# Altium footprint library SnapEDApcb.PcbLib: 1 footprints
Each footprint in its own frame and in the unit in brackets; x right, y up, seen from the top. Pads: shape width x height; smd on the part's side, far side on the other; paste and mask are expansions set on the pad; w line width, h text height; cw(c..) or ccw(c..) is an arc to the next point about the centre after c.
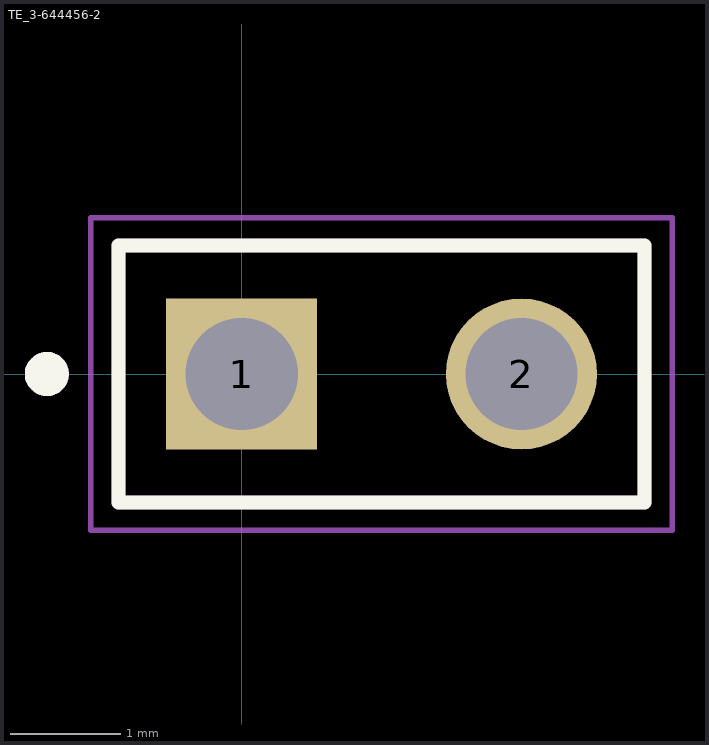
[diagram p0: the footprint, top view; thin cyan lines are the x and y axes]

## TE_3-644456-2 [mm]
pads (2):
  rect 1.37x1.37 hole 1.02: 1(0,0)
  round 1.37 hole 1.02: 2(2.54,0)
Top Overlay:
  circle w0.2: c-1.768,0 r0.1
  lines w0.127: -1.118,-1.168 -1.118,1.168 3.658,1.168 3.658,-1.168 -1.118,-1.168
Mechanical 13:
  circle w0.2: c-1.768,0 r0.1
  lines w0.127: -1.118,-1.168 -1.118,1.168 3.658,1.168 3.658,-1.168 ; -1.118,-1.168 3.658,-1.168 ; -1.118,-1.168 3.658,-1.168
Mechanical 15:
  lines w0.05: -1.368,-1.418 -1.368,1.418 3.908,1.418 3.908,-1.418 -1.368,-1.418